# Altium footprint library MAALsLAB_Resistor_SMD.PcbLib: 32 footprints (part 1 of 2)
Each footprint in its own frame and in the unit in brackets; x right, y up, seen from the top. Pads: shape width x height; smd on the part's side, far side on the other; paste and mask are expansions set on the pad; w line width, h text height; cw(c..) or ccw(c..) is an arc to the next point about the centre after c.
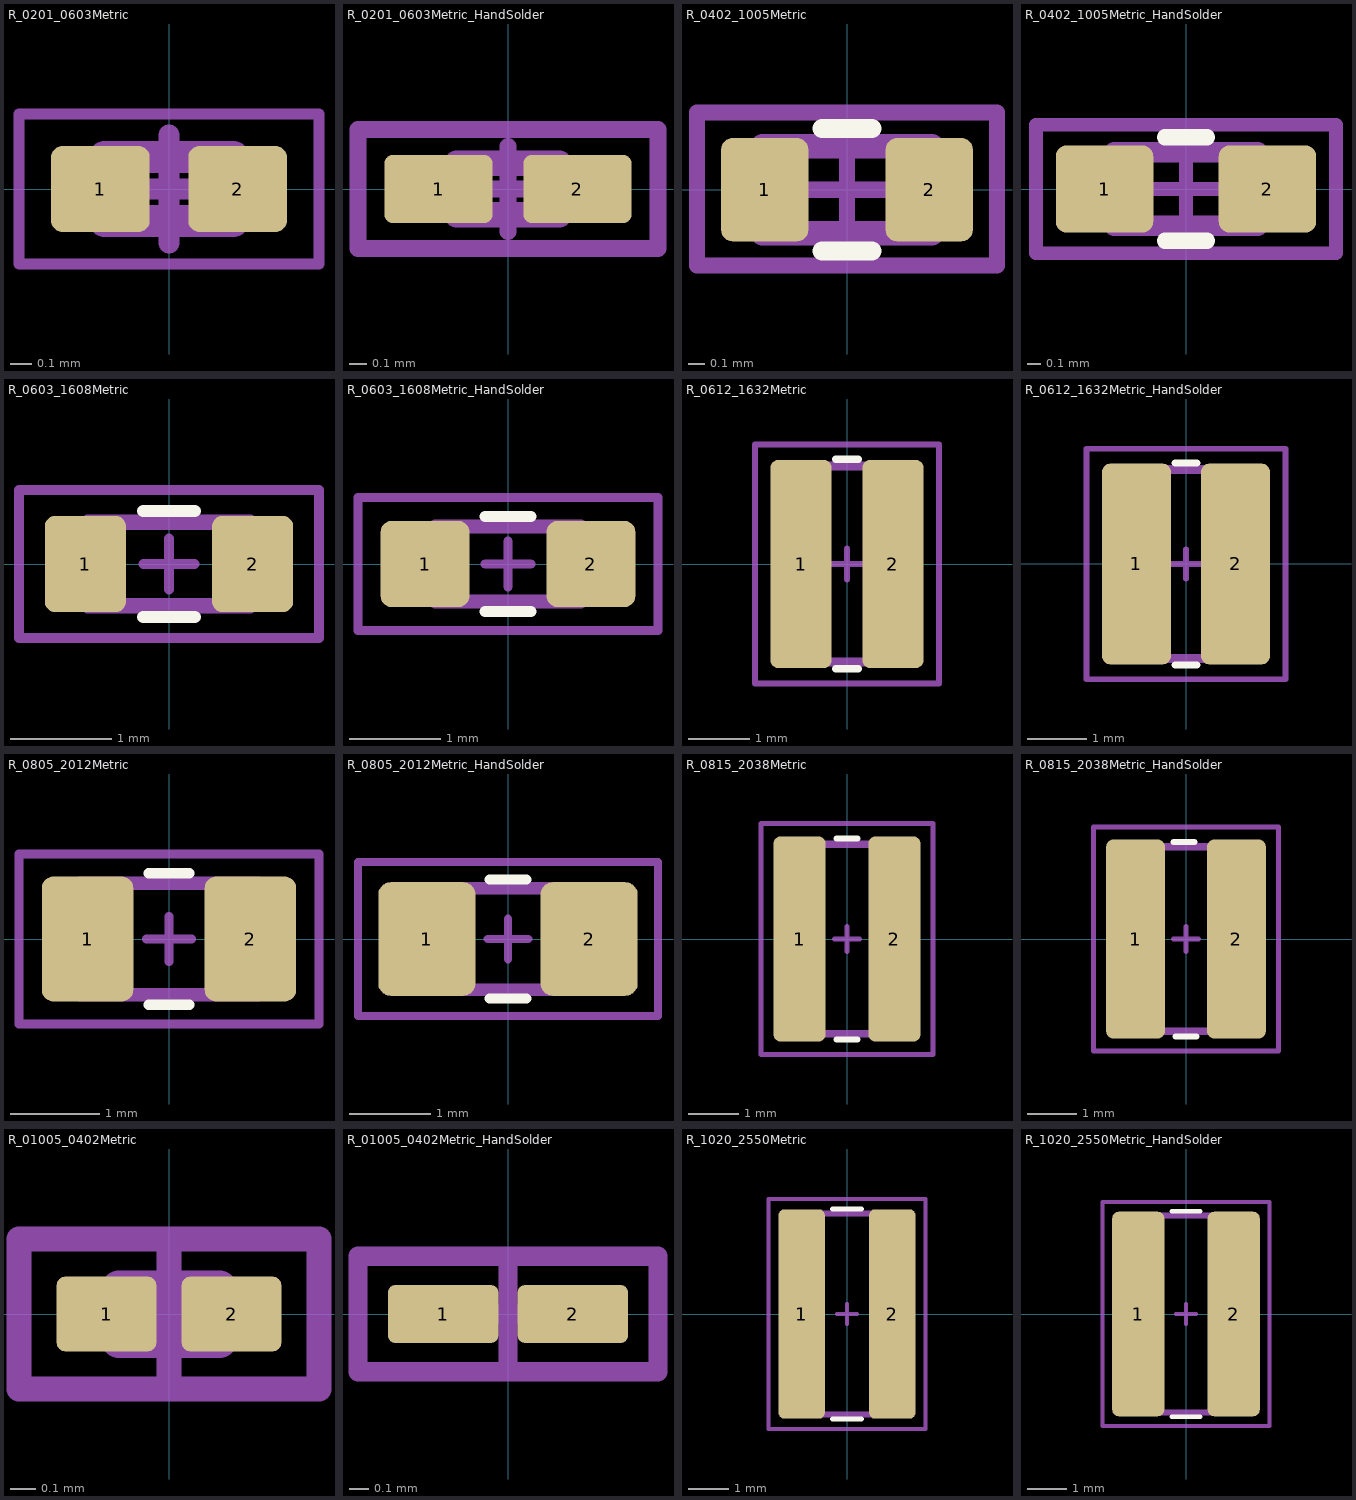
[diagram p0: the footprints below, top view; thin cyan lines are the x and y axes]

## R_0201_0603Metric [mm] "Resistor SMD 0201 (0603 Metric)"
pads (2):
  rrect25% 0.46x0.4 smd: 1(-0.32,0) 2(0.32,0)
Top Courtyard:
  lines w0.05: -0.1,0 0.1,0 ; 0,-0.1 0,0.1 ; -0.7,-0.35 -0.7,0.35 0.7,0.35 0.7,-0.35 -0.7,-0.35
Top Component Center:
  lines w0.1: -0.25,0 0.25,0 ; 0,-0.25 0,0.25
Top Component Outline:
  lines w0.05: -0.7,-0.35 -0.7,0.35 0.7,0.35 0.7,-0.35 -0.7,-0.35
Top Assembly:
  lines w0.15: -0.3,-0.15 -0.3,0.15 0.3,0.15 0.3,-0.15 -0.3,-0.15
Top Designator:
  text ".Designator" at -7.618,-0.508 h1.52
3D body "R_0201_0603Metric.step": height 0.24, standoff 0.01, extent -0.3,-0.15 0.3,0.15

## R_0201_0603Metric_HandSolder [mm] "Resistor SMD 0201 (0603 Metric) for handsoldering."
pads (2):
  rrect25% 0.635x0.4 smd: 1(-0.407,0) 2(0.407,0)
Top Courtyard:
  lines w0.05: -0.1,0 0.1,0 ; 0,-0.1 0,0.1 ; -0.88,-0.35 -0.88,0.35 0.88,0.35 0.88,-0.35 -0.88,-0.35
Top Component Center:
  lines w0.1: -0.25,0 0.25,0 ; 0,-0.25 0,0.25
Top Component Outline:
  lines w0.1: -0.88,-0.35 -0.88,0.35 0.88,0.35 0.88,-0.35 -0.88,-0.35
Top Assembly:
  lines w0.15: -0.3,-0.15 0.3,-0.15 0.3,0.15 -0.3,0.15 -0.3,-0.15
Top Designator:
  text ".Designator" at -7.618,-0.508 h1.52
3D body "R_0201_0603Metric.step": height 0.24, standoff 0.01, extent -0.3,-0.15 0.3,0.15

## R_0402_1005Metric [mm] "Resistor SMD 0402 (1005 Metric)"
pads (2):
  rrect25% 0.54x0.64 smd: 1(-0.51,0) 2(0.51,0)
Top Overlay:
  lines w0.12: -0.154,-0.38 0.154,-0.38 ; -0.154,0.38 0.154,0.38
Top Courtyard:
  lines w0.05: -0.1,0 0.1,0 ; 0,-0.1 0,0.1 ; -0.93,-0.47 -0.93,0.479 0.93,0.479 0.93,-0.47 -0.93,-0.47
Top Component Center:
  lines w0.1: -0.25,0 0.25,0 ; 0,-0.25 0,0.25
Top Component Outline:
  lines w0.1: -0.93,-0.47 -0.93,0.479 0.93,0.479 0.93,-0.47 -0.93,-0.47
Top Assembly:
  lines w0.15: -0.525,-0.27 0.525,-0.27 0.525,0.27 -0.525,0.27 -0.525,-0.27
Top Designator:
  text ".Designator" at -7.618,-0.503 h1.52
3D body "R_0402_1005Metric.step": height 0.36, standoff 0.01, extent -0.5,-0.25 0.5,0.25

## R_0402_1005Metric_HandSolder [mm] "Resistor SMD 0402 (1005 Metric) for handsoldering."
pads (2):
  rrect25% 0.715x0.64 smd: 1(-0.597,0) 2(0.597,0)
Top Overlay:
  lines w0.12: -0.154,-0.38 0.154,-0.38 ; -0.154,0.38 0.154,0.38
Top Courtyard:
  lines w0.05: -0.1,0 0.1,0 ; 0,-0.1 0,0.1 ; -1.1,-0.47 1.1,-0.47 1.1,0.47 -1.1,0.47 -1.1,-0.47
Top Component Center:
  lines w0.1: -0.25,0 0.25,0 ; 0,-0.25 0,0.25
Top Component Outline:
  lines w0.1: -1.1,-0.47 1.1,-0.47 1.1,0.47 -1.1,0.47 -1.1,-0.47
Top Assembly:
  lines w0.15: -0.525,-0.27 -0.525,0.27 0.525,0.27 0.525,-0.27 -0.525,-0.27
Top Designator:
  text ".Designator" at -7.618,-0.508 h1.52
3D body "R_0402_1005Metric.step": height 0.36, standoff 0.01, extent -0.5,-0.25 0.5,0.25

## R_0603_1608Metric [mm] "Resistor SMD 0603 (1608 Metric)"
pads (2):
  rrect25% 0.8x0.95 smd: 1(-0.825,0) 2(0.825,0)
Top Overlay:
  lines w0.12: -0.255,-0.523 0.255,-0.523 ; -0.255,0.523 0.255,0.523
Top Courtyard:
  lines w0.05: -0.1,0 0.1,0 ; 0,-0.1 0,0.1 ; -1.48,-0.73 -1.48,0.73 1.48,0.73 1.48,-0.73 -1.48,-0.73
Top Component Center:
  lines w0.1: -0.25,0 0.25,0 ; 0,-0.25 0,0.25
Top Component Outline:
  lines w0.1: -1.48,-0.73 -1.48,0.73 1.48,0.73 1.48,-0.73 -1.48,-0.73
Top Assembly:
  lines w0.15: -0.8,-0.413 0.8,-0.413 0.8,0.413 -0.8,0.413 -0.8,-0.412
Top Designator:
  text ".Designator" at -7.618,-0.508 h1.52
3D body "R_0603_1608Metric.step": height 0.46, standoff 0.01, extent -0.8,-0.4 0.8,0.4

## R_0603_1608Metric_HandSolder [mm] "Resistor SMD 0603 (1608 Metric) for handsoldering."
pads (2):
  rrect25% 0.975x0.95 smd: 1(-0.913,0) 2(0.913,0)
Top Overlay:
  lines w0.12: -0.255,-0.523 0.255,-0.523 ; -0.255,0.523 0.255,0.523
Top Courtyard:
  lines w0.05: -0.1,0 0.1,0 ; 0,-0.1 0,0.1 ; -1.65,-0.73 1.65,-0.73 1.65,0.73 -1.65,0.73 -1.65,-0.73
Top Component Center:
  lines w0.1: -0.25,0 0.25,0 ; 0,-0.25 0,0.25
Top Component Outline:
  lines w0.1: -1.65,-0.73 1.65,-0.73 1.65,0.73 -1.65,0.73 -1.65,-0.73
Top Assembly:
  lines w0.15: -0.8,-0.413 0.8,-0.413 0.8,0.413 -0.8,0.413 -0.8,-0.412
Top Designator:
  text ".Designator" at -7.618,-0.508 h1.52
3D body "R_0603_1608Metric.step": height 0.46, standoff 0.01, extent -0.8,-0.4 0.8,0.4

## R_0612_1632Metric [mm] "Resistor SMD 0612 (1632 Metric)"
pads (2):
  rrect25% 1x3.4 smd: 1(-0.75,0) 2(0.75,0)
Top Overlay:
  lines w0.12: -0.183,-1.71 0.183,-1.71 ; -0.183,1.71 0.183,1.71
Top Courtyard:
  lines w0.05: -0.1,0 0.1,0 ; 0,-0.1 0,0.1 ; -1.5,-1.95 1.5,-1.95 1.5,1.95 -1.5,1.95 -1.5,-1.95
Top Component Center:
  lines w0.1: -0.25,0 0.25,0 ; 0,-0.25 0,0.25
Top Component Outline:
  lines w0.1: -1.5,-1.95 1.5,-1.95 1.5,1.95 -1.5,1.95 -1.5,-1.95
Top Assembly:
  lines w0.15: -0.8,-1.6 0.8,-1.6 0.8,1.6 -0.8,1.6 -0.8,-1.6
Top Designator:
  text ".Designator" at -7.618,-0.508 h1.52
3D body "R_0612_1632Metric.step": height 0.46, standoff 0.01, extent -0.8,-1.6 0.8,1.6

## R_0612_1632Metric_HandSolder [mm] "Resistor SMD 0612 (1632 Metric) for handsoldering."
pads (2):
  rrect25% 1.175x3.4 smd: 1(-0.837,0) 2(0.837,0)
Top Overlay:
  lines w0.12: -0.183,-1.71 0.183,-1.71 ; -0.183,1.71 0.183,1.71
Top Courtyard:
  lines w0.05: -0.1,0 0.1,0 ; 0,-0.1 0,0.1 ; -1.68,-1.95 1.68,-1.95 1.68,1.95 -1.68,1.95 -1.68,-1.95
Top Component Center:
  lines w0.1: -0.25,0 0.25,0 ; 0,-0.25 0,0.25
Top Component Outline:
  lines w0.1: -1.68,-1.95 1.68,-1.95 1.68,1.95 -1.68,1.95 -1.68,-1.95
Top Assembly:
  lines w0.15: -0.8,-1.6 -0.8,1.6 0.8,1.6 0.8,-1.6 -0.8,-1.6
Top Designator:
  text ".Designator" at -7.618,-0.508 h1.52
3D body "R_0612_1632Metric.step": height 0.46, standoff 0.01, extent -0.8,-1.6 0.8,1.6

## R_0805_2012Metric [mm] "Resistor SMD 0805 (2012 Metric)"
pads (2):
  rrect25% 1.025x1.4 smd: 1(-0.913,0) 2(0.913,0)
Top Overlay:
  lines w0.12: -0.227,-0.735 0.227,-0.735 ; -0.227,0.735 0.227,0.735
Top Courtyard:
  lines w0.05: -0.1,0 0.1,0 ; 0,-0.1 0,0.1 ; -1.68,-0.95 1.68,-0.95 1.68,0.95 -1.68,0.95 -1.68,-0.95
Top Component Center:
  lines w0.1: -0.25,0 0.25,0 ; 0,-0.25 0,0.25
Top Component Outline:
  lines w0.1: -1.68,-0.95 1.68,-0.95 1.68,0.95 -1.68,0.95 -1.68,-0.95
Top Assembly:
  lines w0.15: -1,-0.625 -1,0.625 1,0.625 1,-0.625 -1,-0.625
Top Designator:
  text ".Designator" at -7.618,-0.508 h1.52
3D body "R_0805_2012Metric.step": height 0.46, standoff 0.01, extent -1,-0.6 1,0.6

## R_0805_2012Metric_HandSolder [mm] "Resistor SMD 0805 (2012 Metric) for handsoldering."
pads (2):
  rrect25% 1.2x1.4 smd: 1(-1,0) 2(1,0)
Top Overlay:
  lines w0.12: -0.227,-0.735 0.227,-0.735 ; -0.227,0.735 0.227,0.735
Top Courtyard:
  lines w0.05: -0.1,0 0.1,0 ; 0,-0.1 0,0.1 ; -1.85,-0.95 1.85,-0.95 1.85,0.95 -1.85,0.95 -1.85,-0.95
Top Component Center:
  lines w0.1: -0.25,0 0.25,0 ; 0,-0.25 0,0.25
Top Component Outline:
  lines w0.1: -1.85,-0.95 1.85,-0.95 1.85,0.95 -1.85,0.95 -1.85,-0.95
Top Assembly:
  lines w0.15: -1,-0.625 -1,0.625 1,0.625 1,-0.625 -1,-0.625
Top Designator:
  text ".Designator" at -7.618,-0.508 h1.52
3D body "R_0805_2012Metric.step": height 0.46, standoff 0.01, extent -1,-0.6 1,0.6

## R_0815_2038Metric [mm] "Resistor SMD 0815 (2038 Metric)"
pads (2):
  rrect25% 1.025x4.05 smd: 1(-0.937,0) 2(0.937,0)
Top Overlay:
  lines w0.12: -0.21,-1.985 0.21,-1.985 ; -0.21,1.985 0.21,1.985
Top Courtyard:
  lines w0.05: -0.1,0 0.1,0 ; 0,-0.1 0,0.1 ; -1.7,-2.28 -1.7,2.28 1.7,2.28 1.7,-2.28 -1.7,-2.28
Top Component Center:
  lines w0.1: -0.25,0 0.25,0 ; 0,-0.25 0,0.25
Top Component Outline:
  lines w0.1: -1.7,-2.28 -1.7,2.28 1.7,2.28 1.7,-2.28 -1.7,-2.28
Top Assembly:
  lines w0.15: -1,-1.875 -1,1.875 1,1.875 1,-1.875 -1,-1.875
Top Designator:
  text ".Designator" at -7.618,-0.508 h1.52
3D body "R_0815_2038Metric.step": height 0.46, standoff 0.01, extent -1,-1.9 1,1.9

## R_0815_2038Metric_HandSolder [mm] "Resistor SMD 0815 (2038 Metric) for handsoldering."
pads (2):
  rrect25% 1.2x4.05 smd: 1(-1.025,0) 2(1.025,0)
Top Overlay:
  lines w0.12: -0.25,1.971 0.17,1.971 ; -0.21,-1.985 0.21,-1.985
Top Courtyard:
  lines w0.05: -0.1,0 0.1,0 ; 0,-0.1 0,0.1 ; -1.88,-2.28 1.88,-2.28 1.88,2.28 -1.88,2.28 -1.88,-2.28
Top Component Center:
  lines w0.1: -0.25,0 0.25,0 ; 0,-0.25 0,0.25
Top Component Outline:
  lines w0.1: -1.88,-2.28 1.88,-2.28 1.88,2.28 -1.88,2.28 -1.88,-2.28
Top Assembly:
  lines w0.15: -1,-1.875 1,-1.875 1,1.875 -1,1.875 -1,-1.875
Top Designator:
  text ".Designator" at -7.618,-0.508 h1.52
3D body "R_0815_2038Metric.step": height 0.46, standoff 0.01, extent -1,-1.9 1,1.9

## R_01005_0402Metric [mm] "Resistor SMD 01005 (0402 Metric)"
pads (2):
  rrect25% 0.4x0.3 smd: 1(-0.25,0) 2(0.25,0)
Top Courtyard:
  lines w0.05: -0.1,0 0.1,0 ; 0,-0.1 0,0.1 ; -0.6,-0.3 0.6,-0.3 0.6,0.3 -0.6,0.3 -0.6,-0.3
Top Component Center:
  lines w0.1: -0.25,0 0.25,0 ; 0,-0.25 0,0.25
Top Component Outline:
  lines w0.1: -0.6,-0.3 0.6,-0.3 0.6,0.3 -0.6,0.3 -0.6,-0.3
Top Assembly:
  lines w0.15: -0.2,-0.1 0.2,-0.1 0.2,0.1 -0.2,0.1 -0.2,-0.1
Top Designator:
  text ".Designator" at -7.618,-0.508 h1.52
3D body "R_01005_0402Metric.step": height 0.14, standoff 0.01, extent -0.2,-0.1 0.2,0.1

## R_01005_0402Metric_HandSolder [mm] "Resistor SMD 01005 (0402 Metric) for handsoldering."
pads (2):
  rrect25% 0.575x0.3 smd: 1(-0.337,0) 2(0.337,0)
Top Courtyard:
  lines w0.05: -0.1,0 0.1,0 ; 0,-0.1 0,0.1 ; -0.78,-0.3 -0.78,0.3 0.78,0.3 0.78,-0.3 -0.78,-0.3
Top Component Center:
  lines w0.1: -0.25,0 0.25,0 ; 0,-0.25 0,0.25
Top Component Outline:
  lines w0.1: -0.78,-0.3 -0.78,0.3 0.78,0.3 0.78,-0.3 -0.78,-0.3
Top Designator:
  text ".Designator" at -7.618,-0.508 h1.52
3D body "R_01005_0402Metric.step": height 0.14, standoff 0.01, extent -0.2,-0.1 0.2,0.1

## R_1020_2550Metric [mm] "Resistor SMD 1020 (2550 Metric)"
pads (2):
  rrect25% 1.15x5.2 smd: 1(-1.125,0) 2(1.125,0)
Top Overlay:
  lines w0.12: -0.361,-2.61 0.361,-2.61 ; -0.361,2.61 0.361,2.61
Top Courtyard:
  lines w0.05: -0.1,0 0.1,0 ; 0,-0.1 0,0.1 ; -1.95,-2.85 1.95,-2.85 1.95,2.85 -1.95,2.85 -1.95,-2.85
Top Component Center:
  lines w0.1: -0.25,0 0.25,0 ; 0,-0.25 0,0.25
Top Component Outline:
  lines w0.1: -1.95,-2.85 1.95,-2.85 1.95,2.85 -1.95,2.85 -1.95,-2.85
Top Assembly:
  lines w0.15: -1.25,-2.5 -1.25,2.5 1.25,2.5 1.25,-2.5 -1.25,-2.5
Top Designator:
  text ".Designator" at -7.618,-0.508 h1.52
3D body "R_1020_2550Metric.step": height 0.61, standoff 0.01, extent -1.25,-2.5 1.25,2.5

## R_1020_2550Metric_HandSolder [mm] "Resistor SMD 1020 (2550 Metric) for handsoldering."
pads (2):
  rrect25% 1.325x5.2 smd: 1(-1.212,0) 2(1.212,0)
Top Overlay:
  lines w0.12: -0.361,-2.61 0.361,-2.61 ; -0.361,2.61 0.361,2.61
Top Courtyard:
  lines w0.05: -0.1,0 0.1,0 ; 0,-0.1 0,0.1 ; -2.12,-2.85 2.12,-2.85 2.12,2.85 -2.12,2.85 -2.12,-2.85
Top Component Center:
  lines w0.1: -0.25,0 0.25,0 ; 0,-0.25 0,0.25
Top Component Outline:
  lines w0.1: -2.12,-2.85 2.12,-2.85 2.12,2.85 -2.12,2.85 -2.12,-2.85
Top Assembly:
  lines w0.15: -1.25,-2.5 1.25,-2.5 1.25,2.5 -1.25,2.5 -1.25,-2.5
Top Designator:
  text ".Designator" at -7.618,-0.508 h1.52
3D body "R_1020_2550Metric.step": height 0.61, standoff 0.01, extent -1.25,-2.5 1.25,2.5